# Altium integrated library LP5562TMX_NOPB.IntLib: 1 symbol
Pins are listed as number, name and electrical type; pins without a type are passive.

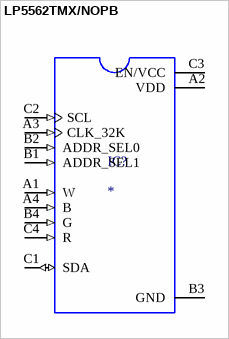
[diagram p0: symbol LP5562TMX/NOPB]

## LP5562TMX/NOPB
designator IC?
4-channel RGB/White LED driver with internal program memory and Independent channel control; MF: Texas Instruments; MP: LP5562TMX/NOPB; SnapEDA_Link: https://www.snapeda.com/parts/LP5562TMX/NOPB/Texas+Instruments/view-part/?ref=snap; Package: DSBGA-12 Texas Instruments; Value: *; Check_prices: https://www.snapeda.com/parts/LP5562TMX/NOPB/Texas+Instruments/view-part/?ref=eda
footprint BGA12N40P4X3_162X122X68
pins: A1 W (in), A2 VDD (power), A3 CLK_32K (in), A4 B (in), B1 ADDR_SEL1 (in), B2 ADDR_SEL0 (in), B3 GND, B4 G (in), C1 SDA (io), C2 SCL (in), C3 EN/VCC (power), C4 R (in)